# EAGLE library part EXB-18V102JX (library Resistor Array)
RES ARRAY 4 RES 1K OHM 0502 Manufacturer's datasheet <https://industrial.panasonic.com/cdbs/www-data/pdf/AOC0000/AOC0000C14.pdf>
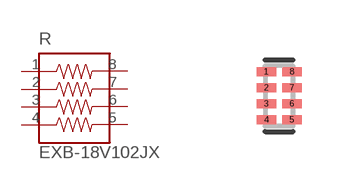
[diagram p7: symbol with the pads of EXB-18V102JX; footprint EXB-18V102JX]

Designator prefix R

## EXB-18V102JX (CREATED_BY: PCBLayout.com; DIGIKEY_PN: Y6102TR-ND; MANUFACTURER: Panasonic Electronic Components; MPN: EXB-18V102JX; PACKAGE: 0502)  [EXB-18V102JX]
1  1  pas
2  2  pas
3  3  pas
4  4  pas
5  5  pas
6  6  pas
7  7  pas
8  8  pas

## Footprint EXB-18V102JX (pad centres in mm)
smd 0.49 x 0.23: 1 -0.32,0.6; 2 -0.32,0.2; 3 -0.32,-0.2; 4 -0.32,-0.6; 5 0.32,-0.6; 6 0.32,-0.2; 7 0.32,0.2; 8 0.32,0.6